# EAGLE library part KSZ8081 (library motorFeedback)
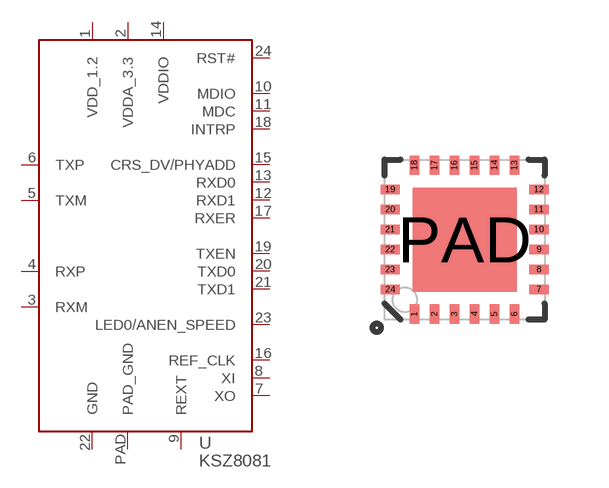
[diagram p34: symbol with the pads of QFN-24; footprint QFN-24]

Designator prefix U

## KSZ8081  [QFN-24]
1  VDD_1.2  pwr
2  VDDA_3.3  pwr
3  RXM  pas
4  RXP  pas
5  TXM  pas
6  TXP  pas
7  XO  out
8  XI  in
9  REXT  pas
10  MDIO
11  MDC  in
12  RXD1  out
13  RXD0  out
14  VDDIO  pwr
15  CRS_DV/PHYADD  out
16  REF_CLK  out
17  RXER  out
18  INTRP  out
19  TXEN  in
20  TXD0  in
21  TXD1  in
22  GND  pwr
23  LED0/ANEN_SPEED
24  RST#  in
PAD  PAD_GND  pwr

## Footprint QFN-24 (pad centres in mm)
smd 0.23 x 0.48: 1 -1.25,-1.86; 2 -0.75,-1.86; 3 -0.25,-1.86; 4 0.25,-1.86; 5 0.75,-1.86; 6 1.25,-1.86; 13 1.25,1.86; 14 0.75,1.86; 15 0.25,1.86; 16 -0.25,1.86; 17 -0.75,1.86; 18 -1.25,1.86
smd 0.48 x 0.23: 7 1.86,-1.25; 8 1.86,-0.75; 9 1.86,-0.25; 10 1.86,0.25; 11 1.86,0.75; 12 1.86,1.25; 19 -1.86,1.25; 20 -1.86,0.75; 21 -1.86,0.25; 22 -1.86,-0.25; 23 -1.86,-0.75; 24 -1.86,-1.25
smd 2.6 x 2.6: PAD 0,0